# EAGLE library part ATTINY45 (library balto)
Atmel 8-pin 2/4/8kB flash uC
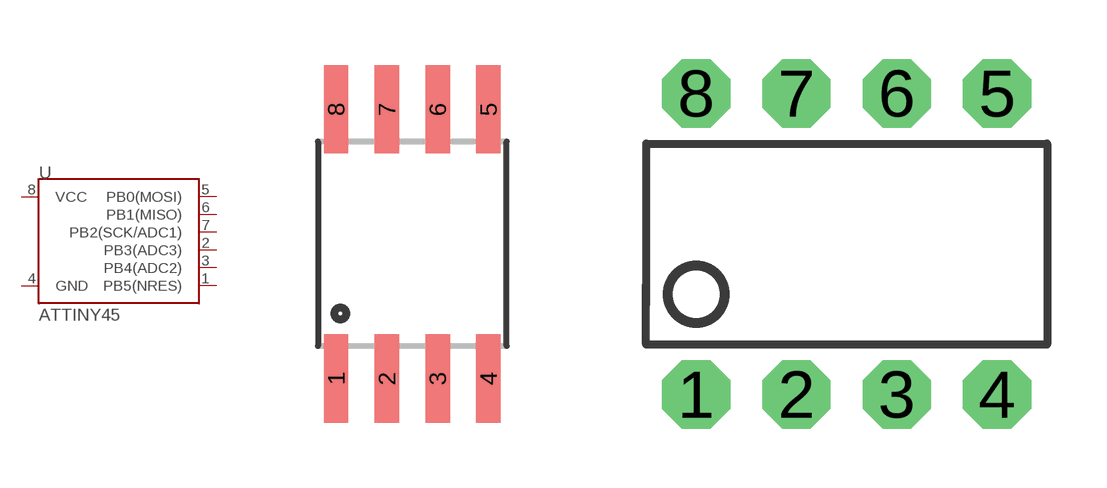
[diagram p34: symbol with the pads of SO08-EIAJ; footprints SO08-EIAJ, DIP08]

Designator prefix -

## ATTINY45-8S2  [SO08-EIAJ]
1  PB5(NRES)
2  PB3(ADC3)
3  PB4(ADC2)
4  GND
5  PB0(MOSI)
6  PB1(MISO)
7  PB2(SCK/ADC1)
8  VCC

## ATTINY458P3  [DIP08]
Pads as for SO08-EIAJ

## ATTINY45-20M1  [QFN20]
0  GND
1  PB5(NRES)
2  PB3(ADC3)
5  PB4(ADC2)
8  GND
11  PB0(MOSI)
12  PB1(MISO)
14  PB2(SCK/ADC1)
15  VCC

## Footprint SO08-EIAJ (pad centres in mm)
Fits EIAJ packages (wide version of the SOIC-8).
smd 0.61 x 2.21: 1 -1.905,-3.378; 2 -0.635,-3.378; 3 0.635,-3.378; 4 1.905,-3.378; 5 1.905,3.353; 6 0.635,3.353; 7 -0.635,3.353; 8 -1.905,3.353

## Footprint DIP08 (pad centres in mm)
Dual In Line
drill 0.813 pad 1.727 octagon: 1 -3.81,-3.81; 2 -1.27,-3.81; 3 1.27,-3.81; 4 3.81,-3.81; 5 3.81,3.81; 6 1.27,3.81; 7 -1.27,3.81; 8 -3.81,3.81

## Footprint QFN20 (pad centres in mm)
smd 1 x 1: 0 0,0
smd 0.65 x 0.29: 1 -1.9,1; 2 -1.9,0.5; 3 -1.9,0; 4 -1.9,-0.5; 5 -1.9,-1; 11 1.9,-1; 12 1.9,-0.5; 13 1.9,0; 14 1.9,0.5; 15 1.9,1
smd 0.29 x 0.65: 6 -1,-1.9; 7 -0.5,-1.9; 8 0,-1.9; 9 0.5,-1.9; 10 1,-1.9; 16 1,1.9; 17 0.5,1.9; 18 0,1.9; 19 -0.5,1.9; 20 -1,1.9